# Altium schematic symbol library mcc-diodes.SchLib: 1 symbol
Pins are listed as number, name and electrical type; pins without a type are passive.

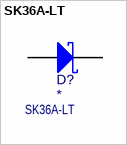
[diagram p0: symbol SK36A-LT]

## SK36A-LT
designator D?  value SK36A-LT
Schottky Barrier Rectifier 3A 60V; ExtraInfo: 60V 3A; Package: DO-214AA; PN: *
footprint DO-214AC (Molded Diode, 2-Leads, Body 4.3x2.6mm, IPC High Density)
pins: 1 A, 2 K